# EAGLE library part ATMEGA644P/V_TQFP (library AVR micom)
ATMEGA644P TQFP pacage AVR micon series. producted by ATMEL.Co
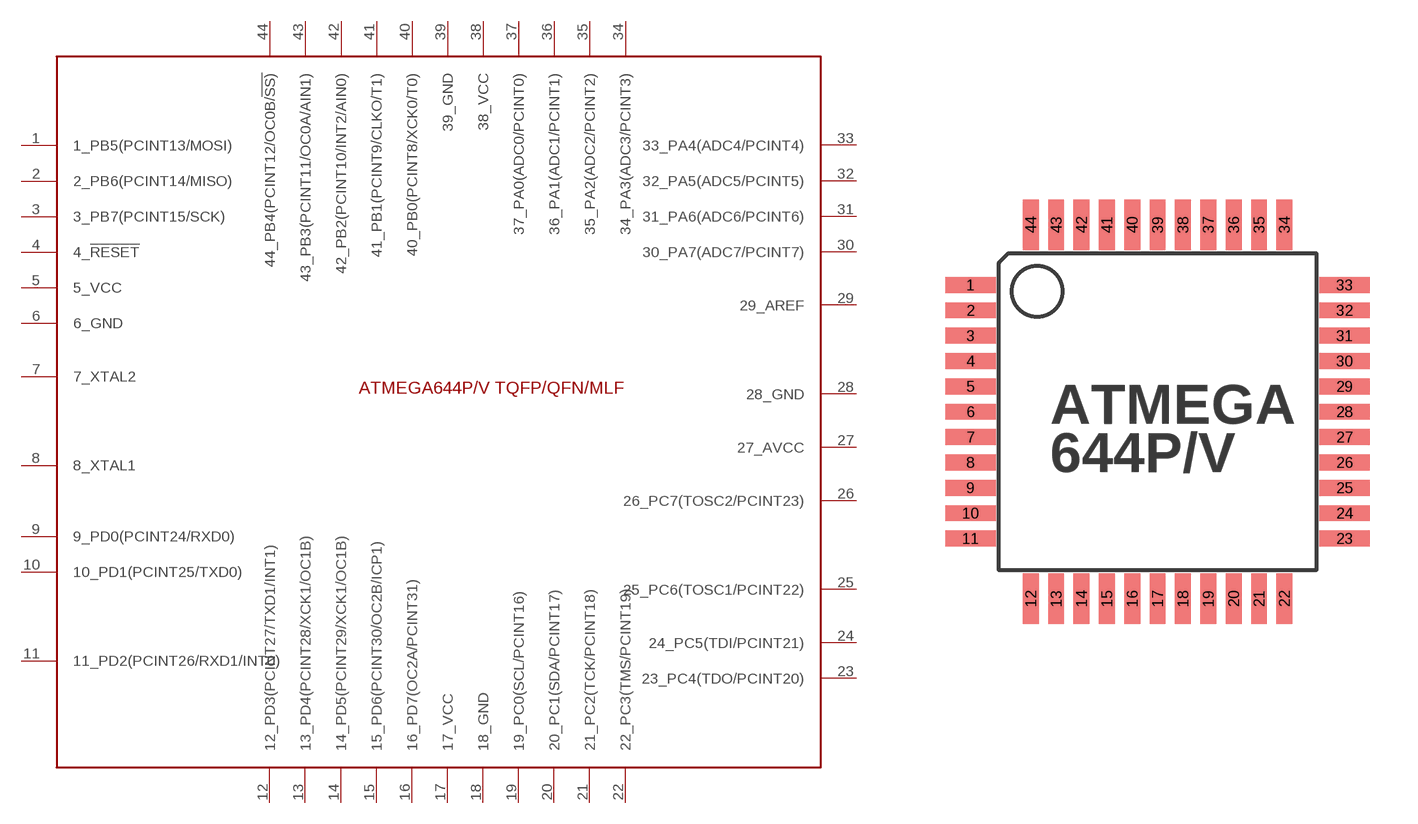
[diagram p0: symbol with the pads of ATMEGA644P/V-AU_TQFP; footprint ATMEGA644P/V-AU_TQFP]

Designator prefix U

## ATMEGA644P/V_TQFP  [ATMEGA644P/V-AU_TQFP]
1  1_PB5(PCINT13/MOSI)
2  2_PB6(PCINT14/MISO)
3  3_PB7(PCINT15/SCK)
4  4_!RESET
5  5_VCC
6  6_GND
7  7_XTAL2
8  8_XTAL1
9  9_PD0(PCINT24/RXD0)
10  10_PD1(PCINT25/TXD0)
11  11_PD2(PCINT26/RXD1/INT0)
12  12_PD3(PCINT27/TXD1/INT1)
13  13_PD4(PCINT28/XCK1/OC1B)
14  14_PD5(PCINT29/XCK1/OC1B)
15  15_PD6(PCINT30/OC2B/ICP1)
16  16_PD7(OC2A/PCINT31)
17  17_VCC
18  18_GND
19  19_PC0(SCL/PCINT16)
20  20_PC1(SDA/PCINT17)
21  21_PC2(TCK/PCINT18)
22  22_PC3(TMS/PCINT19)
23  23_PC4(TDO/PCINT20)
24  24_PC5(TDI/PCINT21)
25  25_PC6(TOSC1/PCINT22)
26  26_PC7(TOSC2/PCINT23)
27  27_AVCC
28  28_GND
29  29_AREF
30  30_PA7(ADC7/PCINT7)
31  31_PA6(ADC6/PCINT6)
32  32_PA5(ADC5/PCINT5)
33  33_PA4(ADC4/PCINT4)
34  34_PA3(ADC3/PCINT3)
35  35_PA2(ADC2/PCINT2)
36  36_PA1(ADC1/PCINT1)
37  37_PA0(ADC0/PCINT0)
38  38_VCC
39  39_GND
40  40_PB0(PCINT8/XCK0/T0)
41  41_PB1(PCINT9/CLKO/T1)
42  42_PB2(PCINT10/INT2/AIN0)
43  43_PB3(PCINT11/OC0A/AIN1)
44  44_PB4(PCINT12/OC0B/!SS)

## Footprint ATMEGA644P/V-AU_TQFP (pad centres in mm)
ATMEGA644P/V 10AU/20AU 44A(TQFN) pacage AVR micon series. producted by ATMEL.Co
smd 1.6 x 0.5: 1 -5.9,4; 2 -5.9,3.2; 3 -5.9,2.4; 4 -5.9,1.6; 5 -5.9,0.8; 6 -5.9,0; 7 -5.9,-0.8; 8 -5.9,-1.6; 9 -5.9,-2.4; 10 -5.9,-3.2; 11 -5.9,-4; 23 5.9,-4; 24 5.9,-3.2; 25 5.9,-2.4; 26 5.9,-1.6; 27 5.9,-0.8; 28 5.9,0; 29 5.9,0.8; 30 5.9,1.6; 31 5.9,2.4; 32 5.9,3.2; 33 5.9,4
smd 0.5 x 1.6: 12 -4,-5.9; 13 -3.2,-5.9; 14 -2.4,-5.9; 15 -1.6,-5.9; 16 -0.8,-5.9; 17 0,-5.9; 18 0.8,-5.9; 19 1.6,-5.9; 20 2.4,-5.9; 21 3.2,-5.9; 22 4,-5.9; 34 4,5.9; 35 3.2,5.9; 36 2.4,5.9; 37 1.6,5.9; 38 0.8,5.9; 39 0,5.9; 40 -0.8,5.9; 41 -1.6,5.9; 42 -2.4,5.9; 43 -3.2,5.9; 44 -4,5.9